# Altium footprint library GH1.25.PcbLib: 24 footprints (part 2 of 2)
Each footprint in its own frame and in the unit in brackets; x right, y up, seen from the top. Pads: shape width x height; smd on the part's side, far side on the other; paste and mask are expansions set on the pad; w line width, h text height; cw(c..) or ccw(c..) is an arc to the next point about the centre after c.
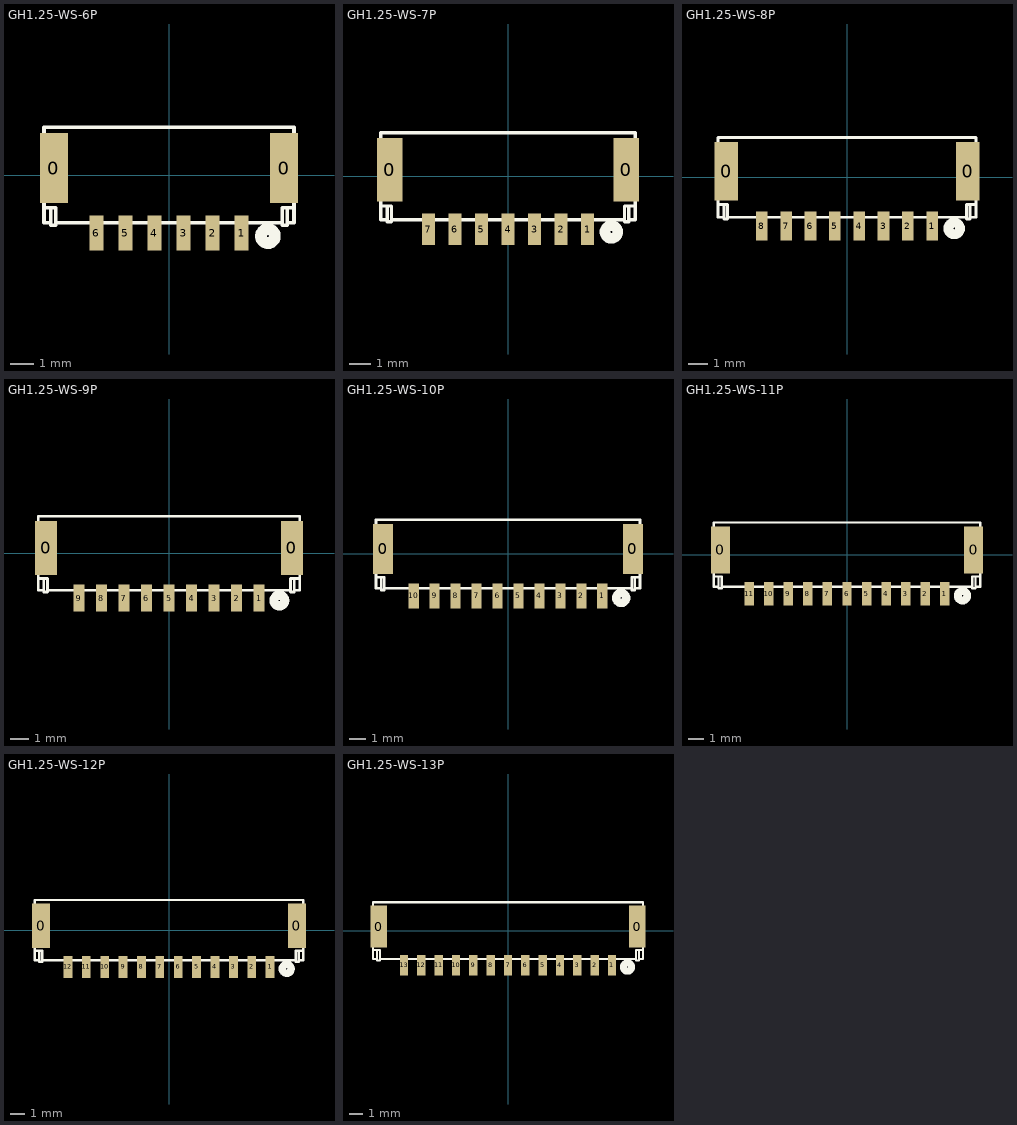
[diagram p1: the footprints below, top view; thin cyan lines are the x and y axes]

## GH1.25-WS-6P [mm] "A1257WR-S-6P"
height 1.5
pads (8):
  rect 1.2x3 smd: 0(-4.95,0.3) 0(4.95,0.3)
  rect 0.6x1.5 smd: 1(3.125,-2.5) 2(1.875,-2.5) 3(0.625,-2.5) 4(-0.625,-2.5) 5(-1.875,-2.5) 6(-3.125,-2.5)
Top Overlay:
  circle w0.5: c4.251,-2.627 r0.3
  lines w0.102: -3.225,-2.15 -3.225,-2.85 -3.025,-2.85 -3.025,-2.15 ; -1.975,-2.15 -1.975,-2.85 -1.775,-2.85 -1.775,-2.15 ; -0.725,-2.15 -0.725,-2.85 -0.525,-2.85 -0.525,-2.15 ; 0.525,-2.15 0.525,-2.85 0.725,-2.85 0.725,-2.15 ; 1.775,-2.15 1.775,-2.85 1.975,-2.85 1.975,-2.15 ; 3.025,-2.15 3.025,-2.85 3.225,-2.85 3.225,-2.15
  lines w0.152: -5.075,-2.05 -5.375,-2.05 -5.375,-1.4 ; -5.075,-1.4 -5.075,-2.15 -4.875,-2.15 -4.875,-2.05 ; -3.225,-2.05 -3.225,-2.15 -3.025,-2.15 -3.025,-2.05 ; -1.975,-2.05 -1.975,-2.15 -1.775,-2.15 -1.775,-2.05 ; -0.725,-2.05 -0.725,-2.15 -0.525,-2.15 -0.525,-2.05 ; 0.525,-2.05 0.525,-2.15 0.725,-2.15 0.725,-2.05 ; 1.775,-2.05 1.775,-2.15 1.975,-2.15 1.975,-2.05 ; 3.025,-2.05 3.025,-2.15 3.225,-2.15 3.225,-2.05 ; 5.075,-2.05 5.375,-2.05 5.375,-1.4 ; 5.075,-1.4 5.075,-2.15 4.875,-2.15 4.875,-2.05 ; -5.375,-1.4 -4.875,-1.4 -4.875,-2.05 ; -5.375,-1.4 -5.375,2.05 5.375,2.05 5.375,-1.4 ; -4.875,-2.05 4.875,-2.05 ; 4.875,-2.05 4.875,-1.4 5.375,-1.4
3D body "A1257WR-S-6P.stp": height 4.4, standoff 0, extent -5.375,-2.8 5.375,2.1

## GH1.25-WS-7P [mm] "A1257WR-S-7P"
height 1.5
pads (9):
  rect 1.2x3 smd: 0(-5.575,0.3) 0(5.575,0.3)
  rect 0.6x1.5 smd: 1(3.75,-2.5) 2(2.5,-2.5) 3(1.25,-2.5) 4(0,-2.5) 5(-1.25,-2.5) 6(-2.5,-2.5) 7(-3.75,-2.5)
Top Overlay:
  circle w0.5: c4.876,-2.627 r0.3
  lines w0.102: -3.85,-2.15 -3.85,-2.85 -3.65,-2.85 -3.65,-2.15 ; -2.6,-2.15 -2.6,-2.85 -2.4,-2.85 -2.4,-2.15 ; -1.35,-2.15 -1.35,-2.85 -1.15,-2.85 -1.15,-2.15 ; -0.1,-2.15 -0.1,-2.85 0.1,-2.85 0.1,-2.15 ; 1.15,-2.15 1.15,-2.85 1.35,-2.85 1.35,-2.15 ; 2.4,-2.15 2.4,-2.85 2.6,-2.85 2.6,-2.15 ; 3.65,-2.15 3.65,-2.85 3.85,-2.85 3.85,-2.15
  lines w0.152: -5.7,-2.05 -6,-2.05 -6,-1.4 ; -5.7,-1.4 -5.7,-2.15 -5.5,-2.15 -5.5,-2.05 ; -3.85,-2.05 -3.85,-2.15 -3.65,-2.15 -3.65,-2.05 ; -2.6,-2.05 -2.6,-2.15 -2.4,-2.15 -2.4,-2.05 ; -1.35,-2.05 -1.35,-2.15 -1.15,-2.15 -1.15,-2.05 ; -0.1,-2.05 -0.1,-2.15 0.1,-2.15 0.1,-2.05 ; 1.15,-2.05 1.15,-2.15 1.35,-2.15 1.35,-2.05 ; 2.4,-2.05 2.4,-2.15 2.6,-2.15 2.6,-2.05 ; 3.65,-2.05 3.65,-2.15 3.85,-2.15 3.85,-2.05 ; 5.7,-2.05 6,-2.05 6,-1.4 ; 5.7,-1.4 5.7,-2.15 5.5,-2.15 5.5,-2.05 ; -6,-1.4 -6,2.05 6,2.05 6,-1.4 ; -6,-1.4 -5.5,-1.4 -5.5,-2.05 ; -5.5,-2.05 5.5,-2.05 ; 5.5,-2.05 5.5,-1.4 6,-1.4
3D body "A1257WR-S-7P.stp": height 4.4, standoff 0, extent -6,-2.8 6,2.1

## GH1.25-WS-8P [mm] "A1257WR-S-8P"
height 1.5
pads (10):
  rect 1.2x3 smd: 0(-6.2,0.3) 0(6.2,0.3)
  rect 0.6x1.5 smd: 1(4.375,-2.5) 2(3.125,-2.5) 3(1.875,-2.5) 4(0.625,-2.5) 5(-0.625,-2.5) 6(-1.875,-2.5) 7(-3.125,-2.5) 8(-4.375,-2.5)
Top Overlay:
  circle w0.5: c5.501,-2.627 r0.3
  lines w0.102: -4.475,-2.15 -4.475,-2.85 -4.275,-2.85 -4.275,-2.15 ; -3.225,-2.15 -3.225,-2.85 -3.025,-2.85 -3.025,-2.15 ; -1.975,-2.15 -1.975,-2.85 -1.775,-2.85 -1.775,-2.15 ; -0.725,-2.15 -0.725,-2.85 -0.525,-2.85 -0.525,-2.15 ; 0.525,-2.15 0.525,-2.85 0.725,-2.85 0.725,-2.15 ; 1.775,-2.15 1.775,-2.85 1.975,-2.85 1.975,-2.15 ; 3.025,-2.15 3.025,-2.85 3.225,-2.85 3.225,-2.15 ; 4.275,-2.15 4.275,-2.85 4.475,-2.85 4.475,-2.15
  lines w0.152: -6.325,-2.05 -6.625,-2.05 -6.625,-1.4 ; -6.325,-1.4 -6.325,-2.15 -6.125,-2.15 -6.125,-2.05 ; -4.475,-2.05 -4.475,-2.15 -4.275,-2.15 -4.275,-2.05 ; -3.225,-2.05 -3.225,-2.15 -3.025,-2.15 -3.025,-2.05 ; -1.975,-2.05 -1.975,-2.15 -1.775,-2.15 -1.775,-2.05 ; -0.725,-2.05 -0.725,-2.15 -0.525,-2.15 -0.525,-2.05 ; 0.525,-2.05 0.525,-2.15 0.725,-2.15 0.725,-2.05 ; 1.775,-2.05 1.775,-2.15 1.975,-2.15 1.975,-2.05 ; 3.025,-2.05 3.025,-2.15 3.225,-2.15 3.225,-2.05 ; 4.275,-2.05 4.275,-2.15 4.475,-2.15 4.475,-2.05 ; 6.325,-2.05 6.625,-2.05 6.625,-1.4 ; 6.325,-1.4 6.325,-2.15 6.125,-2.15 6.125,-2.05 ; -6.625,-1.4 -6.625,2.05 6.625,2.05 6.625,-1.4 ; -6.625,-1.4 -6.125,-1.4 -6.125,-2.05 ; -6.125,-2.05 6.125,-2.05 ; 6.125,-2.05 6.125,-1.4 6.625,-1.4
3D body "A1257WR-S-8P.stp": height 4.4, standoff 0, extent -6.625,-2.8 6.625,2.1

## GH1.25-WS-9P [mm] "A1257WR-S-9P"
height 1.5
pads (11):
  rect 1.2x3 smd: 0(-6.825,0.3) 0(6.825,0.3)
  rect 0.6x1.5 smd: 1(5,-2.5) 2(3.75,-2.5) 3(2.5,-2.5) 4(1.25,-2.5) 5(0,-2.5) 6(-1.25,-2.5) 7(-2.5,-2.5) 8(-3.75,-2.5) 9(-5,-2.5)
Top Overlay:
  circle w0.5: c6.126,-2.627 r0.3
  lines w0.102: -5.1,-2.15 -5.1,-2.85 -4.9,-2.85 -4.9,-2.15 ; -3.85,-2.15 -3.85,-2.85 -3.65,-2.85 -3.65,-2.15 ; -2.6,-2.15 -2.6,-2.85 -2.4,-2.85 -2.4,-2.15 ; -1.35,-2.15 -1.35,-2.85 -1.15,-2.85 -1.15,-2.15 ; -0.1,-2.15 -0.1,-2.85 0.1,-2.85 0.1,-2.15 ; 1.15,-2.15 1.15,-2.85 1.35,-2.85 1.35,-2.15 ; 2.4,-2.15 2.4,-2.85 2.6,-2.85 2.6,-2.15 ; 3.65,-2.15 3.65,-2.85 3.85,-2.85 3.85,-2.15 ; 4.9,-2.15 4.9,-2.85 5.1,-2.85 5.1,-2.15
  lines w0.152: -6.95,-2.05 -7.25,-2.05 -7.25,-1.4 ; -6.95,-1.4 -6.95,-2.15 -6.75,-2.15 -6.75,-2.05 ; -5.1,-2.05 -5.1,-2.15 -4.9,-2.15 -4.9,-2.05 ; -3.85,-2.05 -3.85,-2.15 -3.65,-2.15 -3.65,-2.05 ; -2.6,-2.05 -2.6,-2.15 -2.4,-2.15 -2.4,-2.05 ; -1.35,-2.05 -1.35,-2.15 -1.15,-2.15 -1.15,-2.05 ; -0.1,-2.05 -0.1,-2.15 0.1,-2.15 0.1,-2.05 ; 1.15,-2.05 1.15,-2.15 1.35,-2.15 1.35,-2.05 ; 2.4,-2.05 2.4,-2.15 2.6,-2.15 2.6,-2.05 ; 3.65,-2.05 3.65,-2.15 3.85,-2.15 3.85,-2.05 ; 4.9,-2.05 4.9,-2.15 5.1,-2.15 5.1,-2.05 ; 6.95,-2.05 7.25,-2.05 7.25,-1.4 ; 6.95,-1.4 6.95,-2.15 6.75,-2.15 6.75,-2.05 ; -7.25,-1.4 -6.75,-1.4 -6.75,-2.05 ; -7.25,-1.4 -7.25,2.05 7.25,2.05 7.25,-1.4 ; -6.75,-2.05 6.75,-2.05 ; 6.75,-2.05 6.75,-1.4 7.25,-1.4
3D body "A1257WR-S-9P.stp": height 4.4, standoff 0, extent -7.25,-2.8 7.25,2.1

## GH1.25-WS-10P [mm] "A1257WR-S-10P"
height 1.5
pads (12):
  rect 1.2x3 smd: 0(-7.45,0.3) 0(7.45,0.3)
  rect 0.6x1.5 smd: 1(5.625,-2.5) 2(4.375,-2.5) 3(3.125,-2.5) 4(1.875,-2.5) 5(0.625,-2.5) 6(-0.625,-2.5) 7(-1.875,-2.5) 8(-3.125,-2.5) 9(-4.375,-2.5) 10(-5.625,-2.5)
Top Overlay:
  circle w0.5: c6.751,-2.627 r0.3
  lines w0.102: -5.725,-2.15 -5.725,-2.85 -5.525,-2.85 -5.525,-2.15 ; -4.475,-2.15 -4.475,-2.85 -4.275,-2.85 -4.275,-2.15 ; -3.225,-2.15 -3.225,-2.85 -3.025,-2.85 -3.025,-2.15 ; -1.975,-2.15 -1.975,-2.85 -1.775,-2.85 -1.775,-2.15 ; -0.725,-2.15 -0.725,-2.85 -0.525,-2.85 -0.525,-2.15 ; 0.525,-2.15 0.525,-2.85 0.725,-2.85 0.725,-2.15 ; 1.775,-2.15 1.775,-2.85 1.975,-2.85 1.975,-2.15 ; 3.025,-2.15 3.025,-2.85 3.225,-2.85 3.225,-2.15 ; 4.275,-2.15 4.275,-2.85 4.475,-2.85 4.475,-2.15 ; 5.525,-2.15 5.525,-2.85 5.725,-2.85 5.725,-2.15
  lines w0.152: -7.575,-2.05 -7.875,-2.05 -7.875,-1.4 ; -7.575,-1.4 -7.575,-2.15 -7.375,-2.15 -7.375,-2.05 ; -5.725,-2.05 -5.725,-2.15 -5.525,-2.15 -5.525,-2.05 ; -4.475,-2.05 -4.475,-2.15 -4.275,-2.15 -4.275,-2.05 ; -3.225,-2.05 -3.225,-2.15 -3.025,-2.15 -3.025,-2.05 ; -1.975,-2.05 -1.975,-2.15 -1.775,-2.15 -1.775,-2.05 ; -0.725,-2.05 -0.725,-2.15 -0.525,-2.15 -0.525,-2.05 ; 0.525,-2.05 0.525,-2.15 0.725,-2.15 0.725,-2.05 ; 1.775,-2.05 1.775,-2.15 1.975,-2.15 1.975,-2.05 ; 3.025,-2.05 3.025,-2.15 3.225,-2.15 3.225,-2.05 ; 4.275,-2.05 4.275,-2.15 4.475,-2.15 4.475,-2.05 ; 5.525,-2.05 5.525,-2.15 5.725,-2.15 5.725,-2.05 ; 7.575,-2.05 7.875,-2.05 7.875,-1.4 ; 7.575,-1.4 7.575,-2.15 7.375,-2.15 7.375,-2.05 ; -7.875,-1.4 -7.875,2.05 7.875,2.05 7.875,-1.4 ; -7.875,-1.4 -7.375,-1.4 -7.375,-2.05 ; -7.375,-2.05 7.375,-2.05 ; 7.375,-2.05 7.375,-1.4 7.875,-1.4
3D body "A1257WR-S-10P.stp": height 4.4, standoff 0, extent -7.875,-2.8 7.875,2.1

## GH1.25-WS-11P [mm] "A1257WR-S-11P"
height 1.5
pads (13):
  rect 1.2x3 smd: 0(-8.075,0.3) 0(8.075,0.3)
  rect 0.6x1.5 smd: 1(6.25,-2.5) 2(5,-2.5) 3(3.75,-2.5) 4(2.5,-2.5) 5(1.25,-2.5) 6(0,-2.5) 7(-1.25,-2.5) 8(-2.5,-2.5) 9(-3.75,-2.5) 10(-5,-2.5) 11(-6.25,-2.5)
Top Overlay:
  circle w0.5: c7.376,-2.627 r0.3
  lines w0.102: -6.35,-2.15 -6.35,-2.85 -6.15,-2.85 -6.15,-2.15 ; -5.1,-2.15 -5.1,-2.85 -4.9,-2.85 -4.9,-2.15 ; -3.85,-2.15 -3.85,-2.85 -3.65,-2.85 -3.65,-2.15 ; -2.6,-2.15 -2.6,-2.85 -2.4,-2.85 -2.4,-2.15 ; -1.35,-2.15 -1.35,-2.85 -1.15,-2.85 -1.15,-2.15 ; -0.1,-2.15 -0.1,-2.85 0.1,-2.85 0.1,-2.15 ; 1.15,-2.15 1.15,-2.85 1.35,-2.85 1.35,-2.15 ; 2.4,-2.15 2.4,-2.85 2.6,-2.85 2.6,-2.15 ; 3.65,-2.15 3.65,-2.85 3.85,-2.85 3.85,-2.15 ; 4.9,-2.15 4.9,-2.85 5.1,-2.85 5.1,-2.15 ; 6.15,-2.15 6.15,-2.85 6.35,-2.85 6.35,-2.15
  lines w0.152: -8.2,-2.05 -8.5,-2.05 -8.5,-1.4 ; -8.2,-1.4 -8.2,-2.15 -8,-2.15 -8,-2.05 ; -6.35,-2.05 -6.35,-2.15 -6.15,-2.15 -6.15,-2.05 ; -5.1,-2.05 -5.1,-2.15 -4.9,-2.15 -4.9,-2.05 ; -3.85,-2.05 -3.85,-2.15 -3.65,-2.15 -3.65,-2.05 ; -2.6,-2.05 -2.6,-2.15 -2.4,-2.15 -2.4,-2.05 ; -1.35,-2.05 -1.35,-2.15 -1.15,-2.15 -1.15,-2.05 ; -0.1,-2.05 -0.1,-2.15 0.1,-2.15 0.1,-2.05 ; 1.15,-2.05 1.15,-2.15 1.35,-2.15 1.35,-2.05 ; 2.4,-2.05 2.4,-2.15 2.6,-2.15 2.6,-2.05 ; 3.65,-2.05 3.65,-2.15 3.85,-2.15 3.85,-2.05 ; 4.9,-2.05 4.9,-2.15 5.1,-2.15 5.1,-2.05 ; 6.15,-2.05 6.15,-2.15 6.35,-2.15 6.35,-2.05 ; 8.2,-2.05 8.5,-2.05 8.5,-1.4 ; 8.2,-1.4 8.2,-2.15 8,-2.15 8,-2.05 ; -8.5,-1.4 -8,-1.4 -8,-2.05 ; -8.5,-1.4 -8.5,2.05 8.5,2.05 8.5,-1.4 ; -8,-2.05 8,-2.05 ; 8,-2.05 8,-1.4 8.5,-1.4
3D body "A1257WR-S-11P.stp": height 4.4, standoff 0, extent -8.5,-2.8 8.5,2.1

## GH1.25-WS-12P [mm] "A1257WR-S-12P"
height 1.5
pads (14):
  rect 1.2x3 smd: 0(-8.7,0.3) 0(8.7,0.3)
  rect 0.6x1.5 smd: 1(6.875,-2.5) 2(5.625,-2.5) 3(4.375,-2.5) 4(3.125,-2.5) 5(1.875,-2.5) 6(0.625,-2.5) 7(-0.625,-2.5) 8(-1.875,-2.5) 9(-3.125,-2.5) 10(-4.375,-2.5) 11(-5.625,-2.5) 12(-6.875,-2.5)
Top Overlay:
  circle w0.5: c8.001,-2.627 r0.3
  lines w0.102: -6.975,-2.15 -6.975,-2.85 -6.775,-2.85 -6.775,-2.15 ; -5.725,-2.15 -5.725,-2.85 -5.525,-2.85 -5.525,-2.15 ; -4.475,-2.15 -4.475,-2.85 -4.275,-2.85 -4.275,-2.15 ; -3.225,-2.15 -3.225,-2.85 -3.025,-2.85 -3.025,-2.15 ; -1.975,-2.15 -1.975,-2.85 -1.775,-2.85 -1.775,-2.15 ; -0.725,-2.15 -0.725,-2.85 -0.525,-2.85 -0.525,-2.15 ; 0.525,-2.15 0.525,-2.85 0.725,-2.85 0.725,-2.15 ; 1.775,-2.15 1.775,-2.85 1.975,-2.85 1.975,-2.15 ; 3.025,-2.15 3.025,-2.85 3.225,-2.85 3.225,-2.15 ; 4.275,-2.15 4.275,-2.85 4.475,-2.85 4.475,-2.15 ; 5.525,-2.15 5.525,-2.85 5.725,-2.85 5.725,-2.15 ; 6.775,-2.15 6.775,-2.85 6.975,-2.85 6.975,-2.15
  lines w0.152: -8.825,-2.05 -9.125,-2.05 -9.125,-1.4 ; -8.825,-1.4 -8.825,-2.15 -8.625,-2.15 -8.625,-2.05 ; -6.975,-2.05 -6.975,-2.15 -6.775,-2.15 -6.775,-2.05 ; -5.725,-2.05 -5.725,-2.15 -5.525,-2.15 -5.525,-2.05 ; -4.475,-2.05 -4.475,-2.15 -4.275,-2.15 -4.275,-2.05 ; -3.225,-2.05 -3.225,-2.15 -3.025,-2.15 -3.025,-2.05 ; -1.975,-2.05 -1.975,-2.15 -1.775,-2.15 -1.775,-2.05 ; -0.725,-2.05 -0.725,-2.15 -0.525,-2.15 -0.525,-2.05 ; 0.525,-2.05 0.525,-2.15 0.725,-2.15 0.725,-2.05 ; 1.775,-2.05 1.775,-2.15 1.975,-2.15 1.975,-2.05 ; 3.025,-2.05 3.025,-2.15 3.225,-2.15 3.225,-2.05 ; 4.275,-2.05 4.275,-2.15 4.475,-2.15 4.475,-2.05 ; 5.525,-2.05 5.525,-2.15 5.725,-2.15 5.725,-2.05 ; 6.775,-2.05 6.775,-2.15 6.975,-2.15 6.975,-2.05 ; 8.825,-2.05 9.125,-2.05 9.125,-1.4 ; 8.825,-1.4 8.825,-2.15 8.625,-2.15 8.625,-2.05 ; -9.125,-1.4 -8.625,-1.4 -8.625,-2.05 ; -9.125,-1.4 -9.125,2.05 9.125,2.05 9.125,-1.4 ; -8.625,-2.05 8.625,-2.05 ; 8.625,-2.05 8.625,-1.4 9.125,-1.4
3D body "A1257WR-S-12P.stp": height 4.4, standoff 0, extent -9.125,-2.8 9.125,2.1

## GH1.25-WS-13P [mm] "A1257WR-S-13P"
height 1.5
pads (15):
  rect 1.2x3 smd: 0(-9.325,0.3) 0(9.325,0.3)
  rect 0.6x1.5 smd: 1(7.5,-2.5) 2(6.25,-2.5) 3(5,-2.5) 4(3.75,-2.5) 5(2.5,-2.5) 6(1.25,-2.5) 7(0,-2.5) 8(-1.25,-2.5) 9(-2.5,-2.5) 10(-3.75,-2.5) 11(-5,-2.5) 12(-6.25,-2.5) 13(-7.5,-2.5)
Top Overlay:
  circle w0.5: c8.626,-2.627 r0.3
  lines w0.102: -7.6,-2.15 -7.6,-2.85 -7.4,-2.85 -7.4,-2.15 ; -6.35,-2.15 -6.35,-2.85 -6.15,-2.85 -6.15,-2.15 ; -5.1,-2.15 -5.1,-2.85 -4.9,-2.85 -4.9,-2.15 ; -3.85,-2.15 -3.85,-2.85 -3.65,-2.85 -3.65,-2.15 ; -2.6,-2.15 -2.6,-2.85 -2.4,-2.85 -2.4,-2.15 ; -1.35,-2.15 -1.35,-2.85 -1.15,-2.85 -1.15,-2.15 ; -0.1,-2.15 -0.1,-2.85 0.1,-2.85 0.1,-2.15 ; 1.15,-2.15 1.15,-2.85 1.35,-2.85 1.35,-2.15 ; 2.4,-2.15 2.4,-2.85 2.6,-2.85 2.6,-2.15 ; 3.65,-2.15 3.65,-2.85 3.85,-2.85 3.85,-2.15 ; 4.9,-2.15 4.9,-2.85 5.1,-2.85 5.1,-2.15 ; 6.15,-2.15 6.15,-2.85 6.35,-2.85 6.35,-2.15 ; 7.4,-2.15 7.4,-2.85 7.6,-2.85 7.6,-2.15
  lines w0.152: -9.45,-2.05 -9.75,-2.05 -9.75,-1.4 ; -9.45,-1.4 -9.45,-2.15 -9.25,-2.15 -9.25,-2.05 ; -7.6,-2.05 -7.6,-2.15 -7.4,-2.15 -7.4,-2.05 ; -6.35,-2.05 -6.35,-2.15 -6.15,-2.15 -6.15,-2.05 ; -5.1,-2.05 -5.1,-2.15 -4.9,-2.15 -4.9,-2.05 ; -3.85,-2.05 -3.85,-2.15 -3.65,-2.15 -3.65,-2.05 ; -2.6,-2.05 -2.6,-2.15 -2.4,-2.15 -2.4,-2.05 ; -1.35,-2.05 -1.35,-2.15 -1.15,-2.15 -1.15,-2.05 ; -0.1,-2.05 -0.1,-2.15 0.1,-2.15 0.1,-2.05 ; 1.15,-2.05 1.15,-2.15 1.35,-2.15 1.35,-2.05 ; 2.4,-2.05 2.4,-2.15 2.6,-2.15 2.6,-2.05 ; 3.65,-2.05 3.65,-2.15 3.85,-2.15 3.85,-2.05 ; 4.9,-2.05 4.9,-2.15 5.1,-2.15 5.1,-2.05 ; 6.15,-2.05 6.15,-2.15 6.35,-2.15 6.35,-2.05 ; 7.4,-2.05 7.4,-2.15 7.6,-2.15 7.6,-2.05 ; 9.45,-2.05 9.75,-2.05 9.75,-1.4 ; 9.45,-1.4 9.45,-2.15 9.25,-2.15 9.25,-2.05 ; -9.75,-1.4 -9.75,2.05 9.75,2.05 9.75,-1.4 ; -9.75,-1.4 -9.25,-1.4 -9.25,-2.05 ; -9.25,-2.05 9.25,-2.05 ; 9.25,-2.05 9.25,-1.4 9.75,-1.4
3D body "A1257WR-S-13P.stp": height 4.4, standoff 0, extent -9.75,-2.8 9.75,2.1